# Altium schematic symbol library chess_module.SchLib: 6 symbols
Pins are listed as number, name and electrical type; pins without a type are passive.

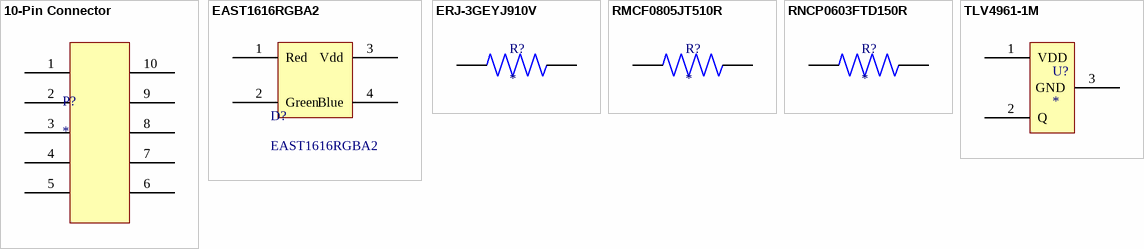
[diagram p0: symbols 10-Pin Connector to TLV4961-1M]

## 10-Pin Connector
designator P?
pins: 1, 2, 3, 4, 5, 6, 7, 8, 9, 10

## EAST1616RGBA2
designator D?
footprint EAST1616RGBA2 (EAST1616RGBA2 RBG LED)
pins: 1 Red, 2 Green, 3 Vdd, 4 Blue

## ERJ-3GEYJ910V
designator R?
Res Thick Film 0603 91 Ohm 5% 1/10W Ã‚Â±200ppm/Ã‚Â°C Molded SMD SMD Punched Carrier T/R; MP: ERJ-3GEYJ910V; Package: None; Price: None; Value: *; Availability: Unavailable
footprint RESC1608X55N
pins: 1, 2

## RMCF0805JT510R
designator R?
MP: RMCF0805JT510R; Package: None; Price: None; Value: *; Availability: Unavailable
footprint RESC2012X65N
pins: 1, 2

## RNCP0603FTD150R
designator R?
MP: RNCP0603FTD150R; Package: None; Price: None; Value: *; Availability: Unavailable
footprint RESC1508X50N
pins: 1, 2

## TLV4961-1M
designator U?
Hall Effect Sensor
footprint SOT95P245X110-3N (SOT23, 3-Leads, Body 2.90x2.45mm, Pitch 0.95mm, IPC Medium Density)
pins: 1 VDD, 2 Q, 3 GND